# Altium integrated library TI Data Converters Analog to Digital Converter.IntLib: 2198 symbols (part 80 of 164)
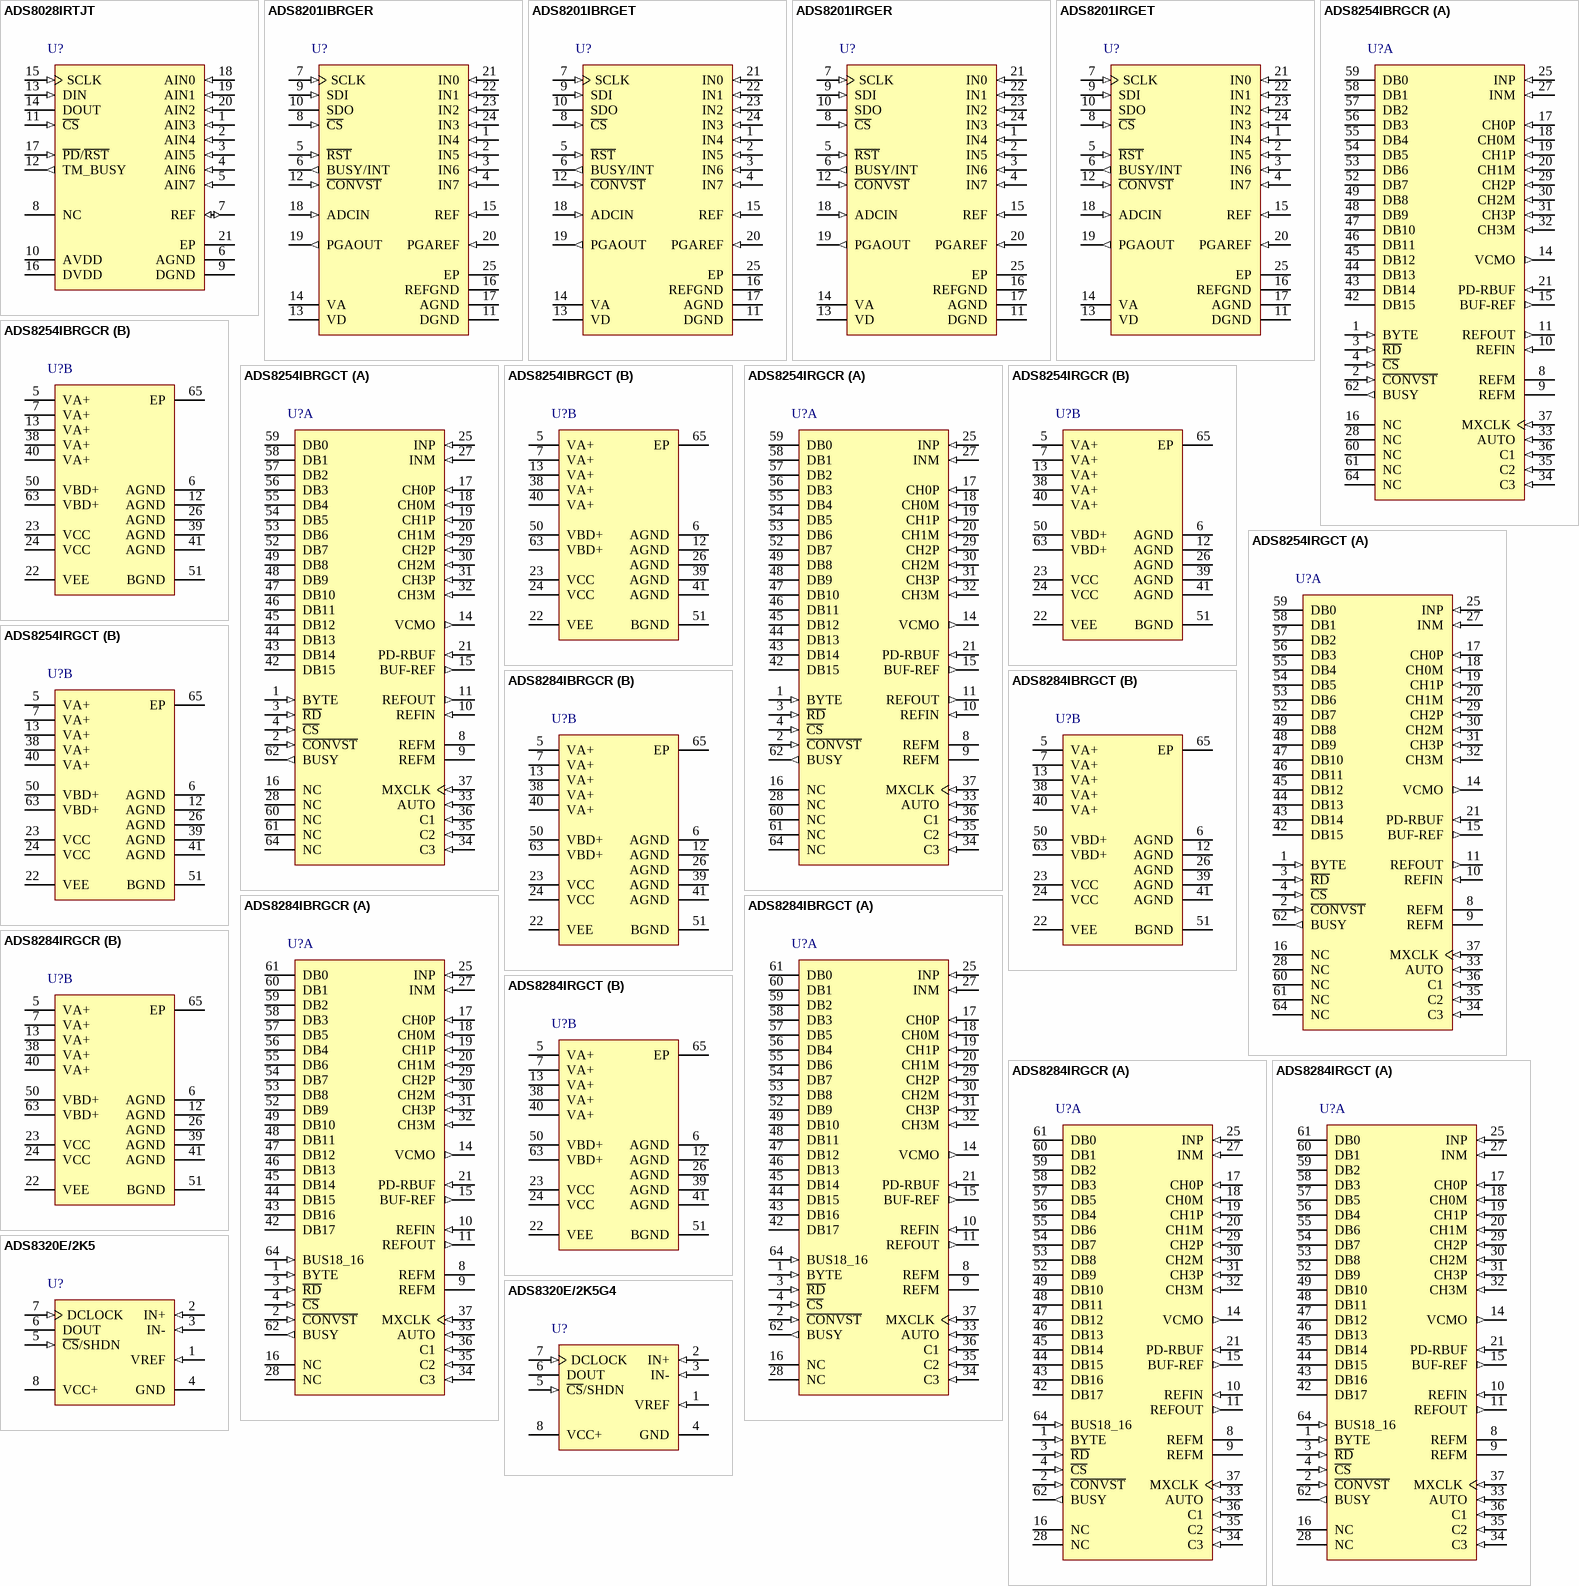
[diagram p205: symbols ADS8028IRTJT to ADS8320E/2K5G4]

## ADS8201IRGER
designator U?
2.2 to 5.5 V, Low-Power, 12-Bit, 100 kSPS, 8-Channel DAS with PGA and SPI(TM), -40 to 85 degC, 24-pin QFN (RGE24), Green (RoHS & no Sb/Br); Manufacturer: Texas Instruments; PartNumber: ADS8201IRGER; # Input Channels: 8; Analog Voltage AV/DD(Max)(V): 5.5; Analog Voltage AV/DD(Min)(V): 2.2; Architecture: SAR; INL(Max)(+/-LSB): 1.5; Interface: Serial SPI; Resolution(Bits): 12; Sample Rate (max)(SPS): 100k; SubFamily: Precision ADC (<=10MSPS); DatasheetVersion: SLAS534B; PackageVersion: 4204104/G, 07/2011; PackageReference: RGE24-2450X2450TP; PackageDescription: 24-Pin Plastic Flat Pack, Body 4 x 4 mm, Pitch 0.5 mm; Supplier 1: Digi-Key; Supplier Part Number 1: ADS830EG4-ND; Digital Supply(Max)(V): 5.5; Digital Supply(Min)(V): 2.2; Eco-Plan: Green (RoHS & no Sb/Br); Mounting Technology: Surface Mount; Code_JEDEC: MO-220; ComponentLink1Description: Manufacturer URL; ComponentLink1URL: http://www.ti.com/; ComponentLink2Description: Datasheet; ComponentLink2URL: http://www.ti.com/general/docs/lit/getliterature.tsp?genericPartNumber=ADS8201&fileType=pdf; ComponentLink3Description: Package Specification; ComponentLink3URL: http://www.ti.com/litv/pdf/mpqf124f
footprint TI-RGE24-2450X2450TP_V (QFN, 24-Leads, Body 4x4mm, Pitch 0.5mm, Thermal Pad 2.45x2.45mm)
pins: 1 IN4 (in) "Input channel single-ended 4 or differential pair 3", 2 IN5 (in) "Input channel single-ended 5 or differential pair 3", 3 IN6 (in) "Input channel single-ended 6 or differential pair 4", 4 IN7 (in) "Input channel single-ended 7 or differential pair 4", 5 ~{RST} (in) "External hardware reset", 6 BUSY/INT (out) "Status output. If programmed as the BUSY pin, this pin is low (default) when a conversion is in progress. If programmed as an interrupt (INT), this pin is low for a preprogrammed duration after the end of a conversion and (See Datasheet)", 7 SCLK (in) "Serial interface clock", 8 ~{CS} (in) "Chip select input for SPI interface slave select (S\S\)", 9 SDI (in) "Serial data in", 10 SDO (hiz) "Serial data out", 11 DGND (power) "Interface ground", 12 ~{CONVST} (in) "Starts conversion", 13 VD (power) "Interface supply", 14 VA (power) "Analog supply (+2.2VDC to +5.5VDC)", 15 REF (in) "External reference input", 16 REFGND (power) "Reference ground", 17 AGND (power) "Analog ground", 18 ADCIN (in) "ADC input", 19 PGAOUT (out) "Mux output. Output can be further filtered before sending to ADCIN.", 20 PGAREF (in) "PGA Reference", 21 IN0 (in) "Analog channel single-ended 0 or differential pair 0", 22 IN1 (in) "Analog channel single-ended 1 or differential pair 0", 23 IN2 (in) "Analog channel single-ended 2 or differential pair 1", 24 IN3 (in) "Analog channel single-ended 3 or differential pair 1", 25 EP (power) "Thermal pad should be tied to AGND."

## ADS8201IRGET
designator U?
2.2 to 5.5 V, Low-Power, 12-Bit, 100 kSPS, 8-Channel DAS with PGA and SPI(TM), -40 to 85 degC, 24-pin QFN (RGE24), Green (RoHS & no Sb/Br); Manufacturer: Texas Instruments; PartNumber: ADS8201IRGET; # Input Channels: 8; Analog Voltage AV/DD(Max)(V): 5.5; Analog Voltage AV/DD(Min)(V): 2.2; Architecture: SAR; INL(Max)(+/-LSB): 1.5; Interface: Serial SPI; Resolution(Bits): 12; Sample Rate (max)(SPS): 100k; SubFamily: Precision ADC (<=10MSPS); DatasheetVersion: SLAS534B; PackageVersion: 4204104/G, 07/2011; PackageReference: RGE24-2450X2450TP; PackageDescription: 24-Pin Plastic Flat Pack, Body 4 x 4 mm, Pitch 0.5 mm; Supplier 1: Digi-Key; Supplier Part Number 1: ADS807E-ND; Digital Supply(Max)(V): 5.5; Digital Supply(Min)(V): 2.2; Eco-Plan: Green (RoHS & no Sb/Br); Mounting Technology: Surface Mount; Code_JEDEC: MO-220; ComponentLink1Description: Manufacturer URL; ComponentLink1URL: http://www.ti.com/; ComponentLink2Description: Datasheet; ComponentLink2URL: http://www.ti.com/general/docs/lit/getliterature.tsp?genericPartNumber=ADS8201&fileType=pdf; ComponentLink3Description: Package Specification; ComponentLink3URL: http://www.ti.com/litv/pdf/mpqf124f
footprint TI-RGE24-2450X2450TP_V (QFN, 24-Leads, Body 4x4mm, Pitch 0.5mm, Thermal Pad 2.45x2.45mm)
pins: 1 IN4 (in) "Input channel single-ended 4 or differential pair 3", 2 IN5 (in) "Input channel single-ended 5 or differential pair 3", 3 IN6 (in) "Input channel single-ended 6 or differential pair 4", 4 IN7 (in) "Input channel single-ended 7 or differential pair 4", 5 ~{RST} (in) "External hardware reset", 6 BUSY/INT (out) "Status output. If programmed as the BUSY pin, this pin is low (default) when a conversion is in progress. If programmed as an interrupt (INT), this pin is low for a preprogrammed duration after the end of a conversion and (See Datasheet)", 7 SCLK (in) "Serial interface clock", 8 ~{CS} (in) "Chip select input for SPI interface slave select (S\S\)", 9 SDI (in) "Serial data in", 10 SDO (hiz) "Serial data out", 11 DGND (power) "Interface ground", 12 ~{CONVST} (in) "Starts conversion", 13 VD (power) "Interface supply", 14 VA (power) "Analog supply (+2.2VDC to +5.5VDC)", 15 REF (in) "External reference input", 16 REFGND (power) "Reference ground", 17 AGND (power) "Analog ground", 18 ADCIN (in) "ADC input", 19 PGAOUT (out) "Mux output. Output can be further filtered before sending to ADCIN.", 20 PGAREF (in) "PGA Reference", 21 IN0 (in) "Analog channel single-ended 0 or differential pair 0", 22 IN1 (in) "Analog channel single-ended 1 or differential pair 0", 23 IN2 (in) "Analog channel single-ended 2 or differential pair 1", 24 IN3 (in) "Analog channel single-ended 3 or differential pair 1", 25 EP (power) "Thermal pad should be tied to AGND."

## ADS8254IBRGCR
designator U?
16-Bit, 4 Channel Differential Complete Acquisition Solution (ADC, REF, and Input Buffer), -40 to 85 degC, 64-pin QFN (RGC64), Green (RoHS & no Sb/Br); Manufacturer: Texas Instruments; PartNumber: ADS8254IBRGCR; # Input Channels: 4; Analog Voltage AV/DD(Max)(V): 5.25; Analog Voltage AV/DD(Min)(V): 4.75; Architecture: SAR; Digital Supply(Min)(V): 2.7; INL(Max)(+/-LSB): 0.75; Interface: Parallel CMOS; Resolution(Bits): 16; Sample Rate (max)(SPS): 1M; SFDR(dB): 120; SINAD(dB): 95.2; SNR(dB): 95.4; SubFamily: Precision ADC (<=10MSPS); DatasheetVersion: SLAS643; PackageVersion: 4204106/F, 11/2011; PackageReference: RGC64-7250X7250TP; PackageDescription: 64-Pin Plastic Quad Flatpack No-Lead, Body 9 x 9 mm, Pitch 0.5 mm; Supplier 1: Digi-Key; Supplier Part Number 1: ADS807E/1K-ND; Digital Supply(Max)(V): 5.25; Eco-Plan: Green (RoHS & no Sb/Br); Mounting Technology: Surface Mount; ComponentLink1Description: Manufacturer URL; ComponentLink1URL: http://www.ti.com/; ComponentLink2Description: Datasheet; ComponentLink2URL: http://www.ti.com/general/docs/lit/getliterature.tsp?genericPartNumber=ADS8254&fileType=pdf; ComponentLink3Description: Package Specification; ComponentLink3URL: http://www.ti.com/litv/pdf/mpqf125e
footprint TI-RGC64-7250X7250TP_V (QFN, 64-Leads, Body 9x9mm, Pitch 0.5mm, Thermal Pad 7.25x7.25mm, TI Recommended)
part A pins: 1 BYTE (in) "Byte Select Input. Used for 8-bit bus reading. Refer to ADC DATA BUS description above.", 2 ~{CONVST} (in) "Convert start. This input is active low and can act independent of the C\S\ input.", 3 ~{RD} (in) "Synchronization pulse for the parallel output.", 4 ~{CS} (in) "Chip select.", 8 REFM (power) "Reference ground.", 9 REFM (power) "Reference ground.", 10 REFIN (in) "Reference Input. Add 0.1-uF decoupling capacitor between REFIN and REFM.", 11 REFOUT (out) "Reference Output. Add 1-uF capacitor between the REFOUT pin and REFM pin when internal reference is used.", 14 VCMO (out) "This pin outputs REFIN/2 and can be used to set common-mode voltage of differential analog inputs.", 15 BUF-REF (out) "Buffered reference output. Useful to level shift bipolar signals using external resistors.", 16 NC "No connection.", 17 CH0P (in) "Non-inverting analog input for differential multiplexer channel number 0. Device performance is optimized for 50-ohm source impedance at this input.", 18 CH0M (in) "Inverting analog input for differential multiplexer channel number 0. Device performance is optimized for 50-ohm source impedance at this input.", 19 CH1P (in) "Non-inverting analog input for differential multiplexer channel number 1. Device performance is optimized for 50-ohm source impedance at this input.", 20 CH1M (in) "Inverting analog input for differential multiplexer channel number 1. Device performance is optimized for 50-ohm source impedance at this input.", 21 PD-RBUF (in) "High on this pin powers down the reference buffer (BUF-REF).", 25 INP (in) "ADC Non inverting input., connect 1-nF capacitor across INP and INM", 27 INM (in) "ADC Inverting input, connect 1-nF capacitor across INP and INM", 28 NC "No connection.", 29 CH2P (in) "Non-inverting analog input for differential multiplexer channel number 2. Device performance is optimized for 50-ohm source impedance at this input.", 30 CH2M (in) "Inverting analog input for differential multiplexer channel number 2. Device performance is optimized for 50-ohm source impedance at this input.", 31 CH3P (in) "Non-inverting analog input for differential multiplexer channel number 3. Device performance is optimized for 50 ohm source impedance at this input.", 32 CH3M (in) "Inverting analog input for differential multiplexer channel number 3. Device performance is optimized for 50-ohm source impedance at this input.", 33 AUTO (in) "High level on this pin selects auto mode for multiplexer scanning. Low level selects manual mode of multiplexer scanning", 34 C3 (in) "In auto mode (AUTO = 1) multiplexer channel selection is reset to CH0 on rising edge of MXCLK while C3 = 1. The pin is do not care in manual mode.", 35 C2 (in) "Acts as multiplexer address bit when AUTO = 0 (manual mode). In auto mode (AUTO = 1) C2 and C1 select the last multiplexer channel (channel count) in the auto scan sequence.", 36 C1 (in) "Acts as multiplexer address LSB when AUTO = 0 (manual mode). In auto mode (AUTO = 1) C2 and C1 select the last multiplexer channel (channel count) in the auto scan sequence.", 37 MXCLK (in) "Multiplexer channel is selected on rising edge of MXCLK irrespective of whether it is auto or manual mode. Device BUSY output can be connected to MXCLK so that device selects next channel at the end of every sample.", 42 DB15 (hiz), 43 DB14 (hiz), 44 DB13 (hiz), 45 DB12 (hiz), 46 DB11 (hiz), 47 DB10 (hiz), 48 DB9 (hiz), 49 DB8 (hiz), 52 DB7 (hiz), 53 DB6 (hiz), 54 DB5 (hiz), 55 DB4 (hiz), 56 DB3 (hiz), 57 DB2 (hiz), 58 DB1 (hiz), 59 DB0 (hiz), 60 NC "No connection.", 61 NC "No connection.", 62 BUSY (out) "Status output. This pin is held high when device is converting.", 64 NC "No connection."
part B pins: 5 VA+ (power) "Analog power supply.", 6 AGND (power) "Analog ground.", 7 VA+ (power) "Analog power supply.", 12 AGND (power) "Analog ground.", 13 VA+ (power) "Analog power supply.", 22 VEE (power) "Negative supply for OPA (OP1, OP2)", 23 VCC (power) "Positive supply for OPA (OP1, OP2, BUF-REF)", 24 VCC (power) "Positive supply for OPA (OP1, OP2, BUF-REF)", 26 AGND (power) "Analog ground.", 38 VA+ (power) "Analog power supply.", 39 AGND (power) "Analog ground.", 40 VA+ (power) "Analog power supply.", 41 AGND (power) "Analog ground.", 50 VBD+ (power) "Digital power supply for ADC bus.", 51 BGND (power) "Digital ground for ADC bus interface digital supply.", 63 VBD+ (power) "Digital power supply for ADC bus.", 65 EP

## ADS8254IBRGCT
designator U?
16-Bit, 4 Channel Differential Complete Acquisition Solution (ADC, REF, and Input Buffer), -40 to 85 degC, 64-pin QFN (RGC64), Green (RoHS & no Sb/Br); Manufacturer: Texas Instruments; PartNumber: ADS8254IBRGCT; # Input Channels: 4; Analog Voltage AV/DD(Max)(V): 5.25; Analog Voltage AV/DD(Min)(V): 4.75; Architecture: SAR; Digital Supply(Min)(V): 2.7; INL(Max)(+/-LSB): 0.75; Interface: Parallel CMOS; Resolution(Bits): 16; Sample Rate (max)(SPS): 1M; SFDR(dB): 120; SINAD(dB): 95.2; SNR(dB): 95.4; SubFamily: Precision ADC (<=10MSPS); DatasheetVersion: SLAS643; PackageVersion: 4204106/F, 11/2011; PackageReference: RGC64-7250X7250TP; PackageDescription: 64-Pin Plastic Quad Flatpack No-Lead, Body 9 x 9 mm, Pitch 0.5 mm; Supplier 1: Digi-Key; Supplier Part Number 1: ADS807E/1KG4-ND; Digital Supply(Max)(V): 5.25; Eco-Plan: Green (RoHS & no Sb/Br); Mounting Technology: Surface Mount; ComponentLink1Description: Manufacturer URL; ComponentLink1URL: http://www.ti.com/; ComponentLink2Description: Datasheet; ComponentLink2URL: http://www.ti.com/general/docs/lit/getliterature.tsp?genericPartNumber=ADS8254&fileType=pdf; ComponentLink3Description: Package Specification; ComponentLink3URL: http://www.ti.com/litv/pdf/mpqf125e
footprint TI-RGC64-7250X7250TP_V (QFN, 64-Leads, Body 9x9mm, Pitch 0.5mm, Thermal Pad 7.25x7.25mm, TI Recommended)
part A pins: 1 BYTE (in) "Byte Select Input. Used for 8-bit bus reading. Refer to ADC DATA BUS description above.", 2 ~{CONVST} (in) "Convert start. This input is active low and can act independent of the C\S\ input.", 3 ~{RD} (in) "Synchronization pulse for the parallel output.", 4 ~{CS} (in) "Chip select.", 8 REFM (power) "Reference ground.", 9 REFM (power) "Reference ground.", 10 REFIN (in) "Reference Input. Add 0.1-uF decoupling capacitor between REFIN and REFM.", 11 REFOUT (out) "Reference Output. Add 1-uF capacitor between the REFOUT pin and REFM pin when internal reference is used.", 14 VCMO (out) "This pin outputs REFIN/2 and can be used to set common-mode voltage of differential analog inputs.", 15 BUF-REF (out) "Buffered reference output. Useful to level shift bipolar signals using external resistors.", 16 NC "No connection.", 17 CH0P (in) "Non-inverting analog input for differential multiplexer channel number 0. Device performance is optimized for 50-ohm source impedance at this input.", 18 CH0M (in) "Inverting analog input for differential multiplexer channel number 0. Device performance is optimized for 50-ohm source impedance at this input.", 19 CH1P (in) "Non-inverting analog input for differential multiplexer channel number 1. Device performance is optimized for 50-ohm source impedance at this input.", 20 CH1M (in) "Inverting analog input for differential multiplexer channel number 1. Device performance is optimized for 50-ohm source impedance at this input.", 21 PD-RBUF (in) "High on this pin powers down the reference buffer (BUF-REF).", 25 INP (in) "ADC Non inverting input., connect 1-nF capacitor across INP and INM", 27 INM (in) "ADC Inverting input, connect 1-nF capacitor across INP and INM", 28 NC "No connection.", 29 CH2P (in) "Non-inverting analog input for differential multiplexer channel number 2. Device performance is optimized for 50-ohm source impedance at this input.", 30 CH2M (in) "Inverting analog input for differential multiplexer channel number 2. Device performance is optimized for 50-ohm source impedance at this input.", 31 CH3P (in) "Non-inverting analog input for differential multiplexer channel number 3. Device performance is optimized for 50 ohm source impedance at this input.", 32 CH3M (in) "Inverting analog input for differential multiplexer channel number 3. Device performance is optimized for 50-ohm source impedance at this input.", 33 AUTO (in) "High level on this pin selects auto mode for multiplexer scanning. Low level selects manual mode of multiplexer scanning", 34 C3 (in) "In auto mode (AUTO = 1) multiplexer channel selection is reset to CH0 on rising edge of MXCLK while C3 = 1. The pin is do not care in manual mode.", 35 C2 (in) "Acts as multiplexer address bit when AUTO = 0 (manual mode). In auto mode (AUTO = 1) C2 and C1 select the last multiplexer channel (channel count) in the auto scan sequence.", 36 C1 (in) "Acts as multiplexer address LSB when AUTO = 0 (manual mode). In auto mode (AUTO = 1) C2 and C1 select the last multiplexer channel (channel count) in the auto scan sequence.", 37 MXCLK (in) "Multiplexer channel is selected on rising edge of MXCLK irrespective of whether it is auto or manual mode. Device BUSY output can be connected to MXCLK so that device selects next channel at the end of every sample.", 42 DB15 (hiz), 43 DB14 (hiz), 44 DB13 (hiz), 45 DB12 (hiz), 46 DB11 (hiz), 47 DB10 (hiz), 48 DB9 (hiz), 49 DB8 (hiz), 52 DB7 (hiz), 53 DB6 (hiz), 54 DB5 (hiz), 55 DB4 (hiz), 56 DB3 (hiz), 57 DB2 (hiz), 58 DB1 (hiz), 59 DB0 (hiz), 60 NC "No connection.", 61 NC "No connection.", 62 BUSY (out) "Status output. This pin is held high when device is converting.", 64 NC "No connection."
part B pins: 5 VA+ (power) "Analog power supply.", 6 AGND (power) "Analog ground.", 7 VA+ (power) "Analog power supply.", 12 AGND (power) "Analog ground.", 13 VA+ (power) "Analog power supply.", 22 VEE (power) "Negative supply for OPA (OP1, OP2)", 23 VCC (power) "Positive supply for OPA (OP1, OP2, BUF-REF)", 24 VCC (power) "Positive supply for OPA (OP1, OP2, BUF-REF)", 26 AGND (power) "Analog ground.", 38 VA+ (power) "Analog power supply.", 39 AGND (power) "Analog ground.", 40 VA+ (power) "Analog power supply.", 41 AGND (power) "Analog ground.", 50 VBD+ (power) "Digital power supply for ADC bus.", 51 BGND (power) "Digital ground for ADC bus interface digital supply.", 63 VBD+ (power) "Digital power supply for ADC bus.", 65 EP

## ADS8254IRGCR
designator U?
16-Bit, 4 Channel Differential Complete Acquisition Solution (ADC, REF, and Input Buffer), -40 to 85 degC, 64-pin QFN (RGC64), Green (RoHS & no Sb/Br); Manufacturer: Texas Instruments; PartNumber: ADS8254IRGCR; # Input Channels: 4; Analog Voltage AV/DD(Max)(V): 5.25; Analog Voltage AV/DD(Min)(V): 4.75; Architecture: SAR; Digital Supply(Min)(V): 2.7; INL(Max)(+/-LSB): 1.5; Interface: Parallel CMOS; Resolution(Bits): 16; Sample Rate (max)(SPS): 1M; SFDR(dB): 120; SINAD(dB): 95.2; SNR(dB): 95.4; SubFamily: Precision ADC (<=10MSPS); DatasheetVersion: SLAS643; PackageVersion: 4204106/F, 11/2011; PackageReference: RGC64-7250X7250TP; PackageDescription: 64-Pin Plastic Quad Flatpack No-Lead, Body 9 x 9 mm, Pitch 0.5 mm; Supplier 1: Digi-Key; Supplier Part Number 1: ADS807EG4-ND; Digital Supply(Max)(V): 5.25; Eco-Plan: Green (RoHS & no Sb/Br); Mounting Technology: Surface Mount; ComponentLink1Description: Manufacturer URL; ComponentLink1URL: http://www.ti.com/; ComponentLink2Description: Datasheet; ComponentLink2URL: http://www.ti.com/general/docs/lit/getliterature.tsp?genericPartNumber=ADS8254&fileType=pdf; ComponentLink3Description: Package Specification; ComponentLink3URL: http://www.ti.com/litv/pdf/mpqf125e
footprint TI-RGC64-7250X7250TP_V (QFN, 64-Leads, Body 9x9mm, Pitch 0.5mm, Thermal Pad 7.25x7.25mm, TI Recommended)
part A pins: 1 BYTE (in) "Byte Select Input. Used for 8-bit bus reading. Refer to ADC DATA BUS description above.", 2 ~{CONVST} (in) "Convert start. This input is active low and can act independent of the C\S\ input.", 3 ~{RD} (in) "Synchronization pulse for the parallel output.", 4 ~{CS} (in) "Chip select.", 8 REFM (power) "Reference ground.", 9 REFM (power) "Reference ground.", 10 REFIN (in) "Reference Input. Add 0.1-uF decoupling capacitor between REFIN and REFM.", 11 REFOUT (out) "Reference Output. Add 1-uF capacitor between the REFOUT pin and REFM pin when internal reference is used.", 14 VCMO (out) "This pin outputs REFIN/2 and can be used to set common-mode voltage of differential analog inputs.", 15 BUF-REF (out) "Buffered reference output. Useful to level shift bipolar signals using external resistors.", 16 NC "No connection.", 17 CH0P (in) "Non-inverting analog input for differential multiplexer channel number 0. Device performance is optimized for 50-ohm source impedance at this input.", 18 CH0M (in) "Inverting analog input for differential multiplexer channel number 0. Device performance is optimized for 50-ohm source impedance at this input.", 19 CH1P (in) "Non-inverting analog input for differential multiplexer channel number 1. Device performance is optimized for 50-ohm source impedance at this input.", 20 CH1M (in) "Inverting analog input for differential multiplexer channel number 1. Device performance is optimized for 50-ohm source impedance at this input.", 21 PD-RBUF (in) "High on this pin powers down the reference buffer (BUF-REF).", 25 INP (in) "ADC Non inverting input., connect 1-nF capacitor across INP and INM", 27 INM (in) "ADC Inverting input, connect 1-nF capacitor across INP and INM", 28 NC "No connection.", 29 CH2P (in) "Non-inverting analog input for differential multiplexer channel number 2. Device performance is optimized for 50-ohm source impedance at this input.", 30 CH2M (in) "Inverting analog input for differential multiplexer channel number 2. Device performance is optimized for 50-ohm source impedance at this input.", 31 CH3P (in) "Non-inverting analog input for differential multiplexer channel number 3. Device performance is optimized for 50 ohm source impedance at this input.", 32 CH3M (in) "Inverting analog input for differential multiplexer channel number 3. Device performance is optimized for 50-ohm source impedance at this input.", 33 AUTO (in) "High level on this pin selects auto mode for multiplexer scanning. Low level selects manual mode of multiplexer scanning", 34 C3 (in) "In auto mode (AUTO = 1) multiplexer channel selection is reset to CH0 on rising edge of MXCLK while C3 = 1. The pin is do not care in manual mode.", 35 C2 (in) "Acts as multiplexer address bit when AUTO = 0 (manual mode). In auto mode (AUTO = 1) C2 and C1 select the last multiplexer channel (channel count) in the auto scan sequence.", 36 C1 (in) "Acts as multiplexer address LSB when AUTO = 0 (manual mode). In auto mode (AUTO = 1) C2 and C1 select the last multiplexer channel (channel count) in the auto scan sequence.", 37 MXCLK (in) "Multiplexer channel is selected on rising edge of MXCLK irrespective of whether it is auto or manual mode. Device BUSY output can be connected to MXCLK so that device selects next channel at the end of every sample.", 42 DB15 (hiz), 43 DB14 (hiz), 44 DB13 (hiz), 45 DB12 (hiz), 46 DB11 (hiz), 47 DB10 (hiz), 48 DB9 (hiz), 49 DB8 (hiz), 52 DB7 (hiz), 53 DB6 (hiz), 54 DB5 (hiz), 55 DB4 (hiz), 56 DB3 (hiz), 57 DB2 (hiz), 58 DB1 (hiz), 59 DB0 (hiz), 60 NC "No connection.", 61 NC "No connection.", 62 BUSY (out) "Status output. This pin is held high when device is converting.", 64 NC "No connection."
part B pins: 5 VA+ (power) "Analog power supply.", 6 AGND (power) "Analog ground.", 7 VA+ (power) "Analog power supply.", 12 AGND (power) "Analog ground.", 13 VA+ (power) "Analog power supply.", 22 VEE (power) "Negative supply for OPA (OP1, OP2)", 23 VCC (power) "Positive supply for OPA (OP1, OP2, BUF-REF)", 24 VCC (power) "Positive supply for OPA (OP1, OP2, BUF-REF)", 26 AGND (power) "Analog ground.", 38 VA+ (power) "Analog power supply.", 39 AGND (power) "Analog ground.", 40 VA+ (power) "Analog power supply.", 41 AGND (power) "Analog ground.", 50 VBD+ (power) "Digital power supply for ADC bus.", 51 BGND (power) "Digital ground for ADC bus interface digital supply.", 63 VBD+ (power) "Digital power supply for ADC bus.", 65 EP

## ADS8254IRGCT
designator U?
16-Bit, 4 Channel Differential Complete Acquisition Solution (ADC, REF, and Input Buffer), -40 to 85 degC, 64-pin QFN (RGC64), Green (RoHS & no Sb/Br); Manufacturer: Texas Instruments; PartNumber: ADS8254IRGCT; # Input Channels: 4; Analog Voltage AV/DD(Max)(V): 5.25; Analog Voltage AV/DD(Min)(V): 4.75; Architecture: SAR; Digital Supply(Min)(V): 2.7; INL(Max)(+/-LSB): 1.5; Interface: Parallel CMOS; Resolution(Bits): 16; Sample Rate (max)(SPS): 1M; SFDR(dB): 120; SINAD(dB): 95.2; SNR(dB): 95.4; SubFamily: Precision ADC (<=10MSPS); DatasheetVersion: SLAS643; PackageVersion: 4204106/F, 11/2011; PackageReference: RGC64-7250X7250TP; PackageDescription: 64-Pin Plastic Quad Flatpack No-Lead, Body 9 x 9 mm, Pitch 0.5 mm; Supplier 1: Digi-Key; Supplier Part Number 1: ADS1201U-ND; Digital Supply(Max)(V): 5.25; Eco-Plan: Green (RoHS & no Sb/Br); Mounting Technology: Surface Mount; ComponentLink1Description: Manufacturer URL; ComponentLink1URL: http://www.ti.com/; ComponentLink2Description: Datasheet; ComponentLink2URL: http://www.ti.com/general/docs/lit/getliterature.tsp?genericPartNumber=ADS8254&fileType=pdf; ComponentLink3Description: Package Specification; ComponentLink3URL: http://www.ti.com/litv/pdf/mpqf125e
footprint TI-RGC64-7250X7250TP_V (QFN, 64-Leads, Body 9x9mm, Pitch 0.5mm, Thermal Pad 7.25x7.25mm, TI Recommended)
part A pins: 1 BYTE (in) "Byte Select Input. Used for 8-bit bus reading. Refer to ADC DATA BUS description above.", 2 ~{CONVST} (in) "Convert start. This input is active low and can act independent of the C\S\ input.", 3 ~{RD} (in) "Synchronization pulse for the parallel output.", 4 ~{CS} (in) "Chip select.", 8 REFM (power) "Reference ground.", 9 REFM (power) "Reference ground.", 10 REFIN (in) "Reference Input. Add 0.1-uF decoupling capacitor between REFIN and REFM.", 11 REFOUT (out) "Reference Output. Add 1-uF capacitor between the REFOUT pin and REFM pin when internal reference is used.", 14 VCMO (out) "This pin outputs REFIN/2 and can be used to set common-mode voltage of differential analog inputs.", 15 BUF-REF (out) "Buffered reference output. Useful to level shift bipolar signals using external resistors.", 16 NC "No connection.", 17 CH0P (in) "Non-inverting analog input for differential multiplexer channel number 0. Device performance is optimized for 50-ohm source impedance at this input.", 18 CH0M (in) "Inverting analog input for differential multiplexer channel number 0. Device performance is optimized for 50-ohm source impedance at this input.", 19 CH1P (in) "Non-inverting analog input for differential multiplexer channel number 1. Device performance is optimized for 50-ohm source impedance at this input.", 20 CH1M (in) "Inverting analog input for differential multiplexer channel number 1. Device performance is optimized for 50-ohm source impedance at this input.", 21 PD-RBUF (in) "High on this pin powers down the reference buffer (BUF-REF).", 25 INP (in) "ADC Non inverting input., connect 1-nF capacitor across INP and INM", 27 INM (in) "ADC Inverting input, connect 1-nF capacitor across INP and INM", 28 NC "No connection.", 29 CH2P (in) "Non-inverting analog input for differential multiplexer channel number 2. Device performance is optimized for 50-ohm source impedance at this input.", 30 CH2M (in) "Inverting analog input for differential multiplexer channel number 2. Device performance is optimized for 50-ohm source impedance at this input.", 31 CH3P (in) "Non-inverting analog input for differential multiplexer channel number 3. Device performance is optimized for 50 ohm source impedance at this input.", 32 CH3M (in) "Inverting analog input for differential multiplexer channel number 3. Device performance is optimized for 50-ohm source impedance at this input.", 33 AUTO (in) "High level on this pin selects auto mode for multiplexer scanning. Low level selects manual mode of multiplexer scanning", 34 C3 (in) "In auto mode (AUTO = 1) multiplexer channel selection is reset to CH0 on rising edge of MXCLK while C3 = 1. The pin is do not care in manual mode.", 35 C2 (in) "Acts as multiplexer address bit when AUTO = 0 (manual mode). In auto mode (AUTO = 1) C2 and C1 select the last multiplexer channel (channel count) in the auto scan sequence.", 36 C1 (in) "Acts as multiplexer address LSB when AUTO = 0 (manual mode). In auto mode (AUTO = 1) C2 and C1 select the last multiplexer channel (channel count) in the auto scan sequence.", 37 MXCLK (in) "Multiplexer channel is selected on rising edge of MXCLK irrespective of whether it is auto or manual mode. Device BUSY output can be connected to MXCLK so that device selects next channel at the end of every sample.", 42 DB15 (hiz), 43 DB14 (hiz), 44 DB13 (hiz), 45 DB12 (hiz), 46 DB11 (hiz), 47 DB10 (hiz), 48 DB9 (hiz), 49 DB8 (hiz), 52 DB7 (hiz), 53 DB6 (hiz), 54 DB5 (hiz), 55 DB4 (hiz), 56 DB3 (hiz), 57 DB2 (hiz), 58 DB1 (hiz), 59 DB0 (hiz), 60 NC "No connection.", 61 NC "No connection.", 62 BUSY (out) "Status output. This pin is held high when device is converting.", 64 NC "No connection."
part B pins: 5 VA+ (power) "Analog power supply.", 6 AGND (power) "Analog ground.", 7 VA+ (power) "Analog power supply.", 12 AGND (power) "Analog ground.", 13 VA+ (power) "Analog power supply.", 22 VEE (power) "Negative supply for OPA (OP1, OP2)", 23 VCC (power) "Positive supply for OPA (OP1, OP2, BUF-REF)", 24 VCC (power) "Positive supply for OPA (OP1, OP2, BUF-REF)", 26 AGND (power) "Analog ground.", 38 VA+ (power) "Analog power supply.", 39 AGND (power) "Analog ground.", 40 VA+ (power) "Analog power supply.", 41 AGND (power) "Analog ground.", 50 VBD+ (power) "Digital power supply for ADC bus.", 51 BGND (power) "Digital ground for ADC bus interface digital supply.", 63 VBD+ (power) "Digital power supply for ADC bus.", 65 EP

## ADS8284IBRGCR
designator U?
18-Bit, 1 MSPS, 4 Channel, Pseudo Bipolar, Differential ADC with Onboard ADC Driver OPA, -40 to 85 degC, 64-pin QFN (RGC64), Green (RoHS & no Sb/Br); Manufacturer: Texas Instruments; PartNumber: ADS8284IBRGCR; # Input Channels: 4; Analog Voltage AV/DD(Max)(V): 5.25; Analog Voltage AV/DD(Min)(V): 4.75; Architecture: SAR; Digital Supply(Min)(V): 2.7; INL(Max)(+/-LSB): 2.5; Interface: Parallel CMOS; Resolution(Bits): 18; Sample Rate (max)(SPS): 1M; SFDR(dB): 121; SINAD(dB): 98.3; SNR(dB): 98.4; SubFamily: Precision ADC (<=10MSPS); DatasheetVersion: SLAS628; PackageVersion: 4204106/F, 11/2011; PackageReference: RGC64-7250X7250TP; PackageDescription: 64-Pin Plastic Quad Flatpack No-Lead, Body 9 x 9 mm, Pitch 0.5 mm; Supplier 1: Digi-Key; Supplier Part Number 1: ADS1201U/1K-ND; Digital Supply(Max)(V): 5.25; Eco-Plan: Green (RoHS & no Sb/Br); Mounting Technology: Surface Mount; ComponentLink1Description: Manufacturer URL; ComponentLink1URL: http://www.ti.com/; ComponentLink2Description: Datasheet; ComponentLink2URL: http://www.ti.com/general/docs/lit/getliterature.tsp?genericPartNumber=ADS8284&fileType=pdf; ComponentLink3Description: Package Specification; ComponentLink3URL: http://www.ti.com/litv/pdf/mpqf125e
footprint TI-RGC64-7250X7250TP_V (QFN, 64-Leads, Body 9x9mm, Pitch 0.5mm, Thermal Pad 7.25x7.25mm, TI Recommended)
part A pins: 1 BYTE (in) "Byte Select Input. Used for 8-bit bus reading. Refer to ADC DATA BUS description above.", 2 ~{CONVST} (in) "Convert start. This input is active low and can act independent of the C\S\ input.", 3 ~{RD} (in) "Synchronization pulse for the parallel output.", 4 ~{CS} (in) "Chip select.", 8 REFM (power) "Reference ground.", 9 REFM (power) "Reference ground.", 10 REFIN (in) "Reference Input. Add 0.1-uF decoupling capacitor between REFIN and REFM.", 11 REFOUT (out) "Reference Output. Add 1-uF capacitor between the REFOUT pin and REFM pin when internal reference is used.", 14 VCMO (out) "This pin outputs REFIN/2 and can be used to set common-mode voltage of differential analog inputs.", 15 BUF-REF (out) "Buffered reference output. Useful to level shift bipolar signals using external resistors.", 16 NC "No connection.", 17 CH0P (in) "Non-inverting analog input for differential multiplexer channel number 0. Device performance is optimized for 50-ohm source impedance at this input.", 18 CH0M (in) "Inverting analog input for differential multiplexer channel number 0. Device performance is optimized for 50-ohm source impedance at this input.", 19 CH1P (in) "Non-inverting analog input for differential multiplexer channel number 1. Device performance is optimized for 50-ohm source impedance at this input.", 20 CH1M (in) "Inverting analog input for differential multiplexer channel number 1. Device performance is optimized for 50-ohm source impedance at this input.", 21 PD-RBUF (in) "High on this pin powers down the reference buffer (BUF-REF).", 25 INP (in) "ADC Non inverting input., connect 1-nF capacitor across INP and INM", 27 INM (in) "ADC Inverting input, connect 1-nF capacitor across INP and INM", 28 NC "No connection.", 29 CH2P (in) "Non-inverting analog input for differential multiplexer channel number 2. Device performance is optimized for 50-ohm source impedance at this input.", 30 CH2M (in) "Inverting analog input for differential multiplexer channel number 2. Device performance is optimized for 50-ohm source impedance at this input.", 31 CH3P (in) "Non-inverting analog input for differential multiplexer channel number 3. Device performance is optimized for 50 ohm source impedance at this input.", 32 CH3M (in) "Inverting analog input for differential multiplexer channel number 3. Device performance is optimized for 50-ohm source impedance at this input.", 33 AUTO (in) "High level on this pin selects auto mode for multiplexer scanning. Low level selects manual mode of multiplexer scanning", 34 C3 (in) "In auto mode (AUTO = 1) multiplexer channel selection is reset to CH0 on rising edge of MXCLK while C3 = 1. The pin is do not care in manual mode.", 35 C2 (in) "Acts as multiplexer address bit when AUTO = 0 (manual mode). In auto mode (AUTO = 1) C2 and C1 select the last multiplexer channel (channel count) in the auto scan sequence.", 36 C1 (in) "Acts as multiplexer address LSB when AUTO = 0 (manual mode). In auto mode (AUTO = 1) C2 and C1 select the last multiplexer channel (channel count) in the auto scan sequence.", 37 MXCLK (in) "Multiplexer channel is selected on rising edge of MXCLK irrespective of whether it is auto or manual mode. Device BUSY output can be connected to MXCLK so that device selects next channel at the end of every sample.", 42 DB17 (hiz), 43 DB16 (hiz), 44 DB15 (hiz), 45 DB14 (hiz), 46 DB13 (hiz), 47 DB12 (hiz), 48 DB11 (hiz), 49 DB10 (hiz), 52 DB9 (hiz), 53 DB8 (hiz), 54 DB7 (hiz), 55 DB6 (hiz), 56 DB4 (hiz), 57 DB5 (hiz), 58 DB3 (hiz), 59 DB2 (hiz), 60 DB1 (hiz), 61 DB0 (hiz), 62 BUSY (out) "Status output. This pin is held high when device is converting.", 64 BUS18_16 (in) "Bus size select input. Used for selecting 18-bit or 16-bit wide bus transfer. Refer to ADC DATA BUS description above."
part B pins: 5 VA+ (power) "Analog power supply.", 6 AGND (power) "Analog ground.", 7 VA+ (power) "Analog power supply.", 12 AGND (power) "Analog ground.", 13 VA+ (power) "Analog power supply.", 22 VEE (power) "Negative supply for OPA (OP1, OP2)", 23 VCC (power) "Positive supply for OPA (OP1, OP2, BUF-REF)", 24 VCC (power) "Positive supply for OPA (OP1, OP2, BUF-REF)", 26 AGND (power) "Analog ground.", 38 VA+ (power) "Analog power supply.", 39 AGND (power) "Analog ground.", 40 VA+ (power) "Analog power supply.", 41 AGND (power) "Analog ground.", 50 VBD+ (power) "Digital power supply for ADC bus.", 51 BGND (power) "Digital ground for ADC bus interface digital supply.", 63 VBD+ (power) "Digital power supply for ADC bus.", 65 EP

## ADS8284IBRGCT
designator U?
18-Bit, 1 MSPS, 4 Channel, Pseudo Bipolar, Differential ADC with Onboard ADC Driver OPA, -40 to 85 degC, 64-pin QFN (RGC64), Green (RoHS & no Sb/Br); Manufacturer: Texas Instruments; PartNumber: ADS8284IBRGCT; # Input Channels: 4; Analog Voltage AV/DD(Max)(V): 5.25; Analog Voltage AV/DD(Min)(V): 4.75; Architecture: SAR; Digital Supply(Min)(V): 2.7; INL(Max)(+/-LSB): 2.5; Interface: Parallel CMOS; Resolution(Bits): 18; Sample Rate (max)(SPS): 1M; SFDR(dB): 121; SINAD(dB): 98.3; SNR(dB): 98.4; SubFamily: Precision ADC (<=10MSPS); DatasheetVersion: SLAS628; PackageVersion: 4204106/F, 11/2011; PackageReference: RGC64-7250X7250TP; PackageDescription: 64-Pin Plastic Quad Flatpack No-Lead, Body 9 x 9 mm, Pitch 0.5 mm; Supplier 1: Digi-Key; Supplier Part Number 1: ADS1201U/1KG4-ND; Digital Supply(Max)(V): 5.25; Eco-Plan: Green (RoHS & no Sb/Br); Mounting Technology: Surface Mount; ComponentLink1Description: Manufacturer URL; ComponentLink1URL: http://www.ti.com/; ComponentLink2Description: Datasheet; ComponentLink2URL: http://www.ti.com/general/docs/lit/getliterature.tsp?genericPartNumber=ADS8284&fileType=pdf; ComponentLink3Description: Package Specification; ComponentLink3URL: http://www.ti.com/litv/pdf/mpqf125e
footprint TI-RGC64-7250X7250TP_V (QFN, 64-Leads, Body 9x9mm, Pitch 0.5mm, Thermal Pad 7.25x7.25mm, TI Recommended)
part A pins: 1 BYTE (in) "Byte Select Input. Used for 8-bit bus reading. Refer to ADC DATA BUS description above.", 2 ~{CONVST} (in) "Convert start. This input is active low and can act independent of the C\S\ input.", 3 ~{RD} (in) "Synchronization pulse for the parallel output.", 4 ~{CS} (in) "Chip select.", 8 REFM (power) "Reference ground.", 9 REFM (power) "Reference ground.", 10 REFIN (in) "Reference Input. Add 0.1-uF decoupling capacitor between REFIN and REFM.", 11 REFOUT (out) "Reference Output. Add 1-uF capacitor between the REFOUT pin and REFM pin when internal reference is used.", 14 VCMO (out) "This pin outputs REFIN/2 and can be used to set common-mode voltage of differential analog inputs.", 15 BUF-REF (out) "Buffered reference output. Useful to level shift bipolar signals using external resistors.", 16 NC "No connection.", 17 CH0P (in) "Non-inverting analog input for differential multiplexer channel number 0. Device performance is optimized for 50-ohm source impedance at this input.", 18 CH0M (in) "Inverting analog input for differential multiplexer channel number 0. Device performance is optimized for 50-ohm source impedance at this input.", 19 CH1P (in) "Non-inverting analog input for differential multiplexer channel number 1. Device performance is optimized for 50-ohm source impedance at this input.", 20 CH1M (in) "Inverting analog input for differential multiplexer channel number 1. Device performance is optimized for 50-ohm source impedance at this input.", 21 PD-RBUF (in) "High on this pin powers down the reference buffer (BUF-REF).", 25 INP (in) "ADC Non inverting input., connect 1-nF capacitor across INP and INM", 27 INM (in) "ADC Inverting input, connect 1-nF capacitor across INP and INM", 28 NC "No connection.", 29 CH2P (in) "Non-inverting analog input for differential multiplexer channel number 2. Device performance is optimized for 50-ohm source impedance at this input.", 30 CH2M (in) "Inverting analog input for differential multiplexer channel number 2. Device performance is optimized for 50-ohm source impedance at this input.", 31 CH3P (in) "Non-inverting analog input for differential multiplexer channel number 3. Device performance is optimized for 50 ohm source impedance at this input.", 32 CH3M (in) "Inverting analog input for differential multiplexer channel number 3. Device performance is optimized for 50-ohm source impedance at this input.", 33 AUTO (in) "High level on this pin selects auto mode for multiplexer scanning. Low level selects manual mode of multiplexer scanning", 34 C3 (in) "In auto mode (AUTO = 1) multiplexer channel selection is reset to CH0 on rising edge of MXCLK while C3 = 1. The pin is do not care in manual mode.", 35 C2 (in) "Acts as multiplexer address bit when AUTO = 0 (manual mode). In auto mode (AUTO = 1) C2 and C1 select the last multiplexer channel (channel count) in the auto scan sequence.", 36 C1 (in) "Acts as multiplexer address LSB when AUTO = 0 (manual mode). In auto mode (AUTO = 1) C2 and C1 select the last multiplexer channel (channel count) in the auto scan sequence.", 37 MXCLK (in) "Multiplexer channel is selected on rising edge of MXCLK irrespective of whether it is auto or manual mode. Device BUSY output can be connected to MXCLK so that device selects next channel at the end of every sample.", 42 DB17 (hiz), 43 DB16 (hiz), 44 DB15 (hiz), 45 DB14 (hiz), 46 DB13 (hiz), 47 DB12 (hiz), 48 DB11 (hiz), 49 DB10 (hiz), 52 DB9 (hiz), 53 DB8 (hiz), 54 DB7 (hiz), 55 DB6 (hiz), 56 DB4 (hiz), 57 DB5 (hiz), 58 DB3 (hiz), 59 DB2 (hiz), 60 DB1 (hiz), 61 DB0 (hiz), 62 BUSY (out) "Status output. This pin is held high when device is converting.", 64 BUS18_16 (in) "Bus size select input. Used for selecting 18-bit or 16-bit wide bus transfer. Refer to ADC DATA BUS description above."
part B pins: 5 VA+ (power) "Analog power supply.", 6 AGND (power) "Analog ground.", 7 VA+ (power) "Analog power supply.", 12 AGND (power) "Analog ground.", 13 VA+ (power) "Analog power supply.", 22 VEE (power) "Negative supply for OPA (OP1, OP2)", 23 VCC (power) "Positive supply for OPA (OP1, OP2, BUF-REF)", 24 VCC (power) "Positive supply for OPA (OP1, OP2, BUF-REF)", 26 AGND (power) "Analog ground.", 38 VA+ (power) "Analog power supply.", 39 AGND (power) "Analog ground.", 40 VA+ (power) "Analog power supply.", 41 AGND (power) "Analog ground.", 50 VBD+ (power) "Digital power supply for ADC bus.", 51 BGND (power) "Digital ground for ADC bus interface digital supply.", 63 VBD+ (power) "Digital power supply for ADC bus.", 65 EP

## ADS8284IRGCR
designator U?
18-Bit, 1 MSPS, 4 Channel, Pseudo Bipolar, Differential ADC with Onboard ADC Driver OPA, -40 to 85 degC, 64-pin QFN (RGC64), Green (RoHS & no Sb/Br); Manufacturer: Texas Instruments; PartNumber: ADS8284IRGCR; # Input Channels: 4; Analog Voltage AV/DD(Max)(V): 5.25; Analog Voltage AV/DD(Min)(V): 4.75; Architecture: SAR; Digital Supply(Min)(V): 2.7; INL(Max)(+/-LSB): 4.5; Interface: Parallel CMOS; Resolution(Bits): 18; Sample Rate (max)(SPS): 1M; SFDR(dB): 121; SINAD(dB): 98.3; SNR(dB): 98.4; SubFamily: Precision ADC (<=10MSPS); DatasheetVersion: SLAS628; PackageVersion: 4204106/F, 11/2011; PackageReference: RGC64-7250X7250TP; PackageDescription: 64-Pin Plastic Quad Flatpack No-Lead, Body 9 x 9 mm, Pitch 0.5 mm; Supplier 1: Digi-Key; Supplier Part Number 1: ADS1201UG4-ND; Digital Supply(Max)(V): 5.25; Eco-Plan: Green (RoHS & no Sb/Br); Mounting Technology: Surface Mount; ComponentLink1Description: Manufacturer URL; ComponentLink1URL: http://www.ti.com/; ComponentLink2Description: Datasheet; ComponentLink2URL: http://www.ti.com/general/docs/lit/getliterature.tsp?genericPartNumber=ADS8284&fileType=pdf; ComponentLink3Description: Package Specification; ComponentLink3URL: http://www.ti.com/litv/pdf/mpqf125e
footprint TI-RGC64-7250X7250TP_V (QFN, 64-Leads, Body 9x9mm, Pitch 0.5mm, Thermal Pad 7.25x7.25mm, TI Recommended)
part A pins: 1 BYTE (in) "Byte Select Input. Used for 8-bit bus reading. Refer to ADC DATA BUS description above.", 2 ~{CONVST} (in) "Convert start. This input is active low and can act independent of the C\S\ input.", 3 ~{RD} (in) "Synchronization pulse for the parallel output.", 4 ~{CS} (in) "Chip select.", 8 REFM (power) "Reference ground.", 9 REFM (power) "Reference ground.", 10 REFIN (in) "Reference Input. Add 0.1-uF decoupling capacitor between REFIN and REFM.", 11 REFOUT (out) "Reference Output. Add 1-uF capacitor between the REFOUT pin and REFM pin when internal reference is used.", 14 VCMO (out) "This pin outputs REFIN/2 and can be used to set common-mode voltage of differential analog inputs.", 15 BUF-REF (out) "Buffered reference output. Useful to level shift bipolar signals using external resistors.", 16 NC "No connection.", 17 CH0P (in) "Non-inverting analog input for differential multiplexer channel number 0. Device performance is optimized for 50-ohm source impedance at this input.", 18 CH0M (in) "Inverting analog input for differential multiplexer channel number 0. Device performance is optimized for 50-ohm source impedance at this input.", 19 CH1P (in) "Non-inverting analog input for differential multiplexer channel number 1. Device performance is optimized for 50-ohm source impedance at this input.", 20 CH1M (in) "Inverting analog input for differential multiplexer channel number 1. Device performance is optimized for 50-ohm source impedance at this input.", 21 PD-RBUF (in) "High on this pin powers down the reference buffer (BUF-REF).", 25 INP (in) "ADC Non inverting input., connect 1-nF capacitor across INP and INM", 27 INM (in) "ADC Inverting input, connect 1-nF capacitor across INP and INM", 28 NC "No connection.", 29 CH2P (in) "Non-inverting analog input for differential multiplexer channel number 2. Device performance is optimized for 50-ohm source impedance at this input.", 30 CH2M (in) "Inverting analog input for differential multiplexer channel number 2. Device performance is optimized for 50-ohm source impedance at this input.", 31 CH3P (in) "Non-inverting analog input for differential multiplexer channel number 3. Device performance is optimized for 50 ohm source impedance at this input.", 32 CH3M (in) "Inverting analog input for differential multiplexer channel number 3. Device performance is optimized for 50-ohm source impedance at this input.", 33 AUTO (in) "High level on this pin selects auto mode for multiplexer scanning. Low level selects manual mode of multiplexer scanning", 34 C3 (in) "In auto mode (AUTO = 1) multiplexer channel selection is reset to CH0 on rising edge of MXCLK while C3 = 1. The pin is do not care in manual mode.", 35 C2 (in) "Acts as multiplexer address bit when AUTO = 0 (manual mode). In auto mode (AUTO = 1) C2 and C1 select the last multiplexer channel (channel count) in the auto scan sequence.", 36 C1 (in) "Acts as multiplexer address LSB when AUTO = 0 (manual mode). In auto mode (AUTO = 1) C2 and C1 select the last multiplexer channel (channel count) in the auto scan sequence.", 37 MXCLK (in) "Multiplexer channel is selected on rising edge of MXCLK irrespective of whether it is auto or manual mode. Device BUSY output can be connected to MXCLK so that device selects next channel at the end of every sample.", 42 DB17 (hiz), 43 DB16 (hiz), 44 DB15 (hiz), 45 DB14 (hiz), 46 DB13 (hiz), 47 DB12 (hiz), 48 DB11 (hiz), 49 DB10 (hiz), 52 DB9 (hiz), 53 DB8 (hiz), 54 DB7 (hiz), 55 DB6 (hiz), 56 DB4 (hiz), 57 DB5 (hiz), 58 DB3 (hiz), 59 DB2 (hiz), 60 DB1 (hiz), 61 DB0 (hiz), 62 BUSY (out) "Status output. This pin is held high when device is converting.", 64 BUS18_16 (in) "Bus size select input. Used for selecting 18-bit or 16-bit wide bus transfer. Refer to ADC DATA BUS description above."
part B pins: 5 VA+ (power) "Analog power supply.", 6 AGND (power) "Analog ground.", 7 VA+ (power) "Analog power supply.", 12 AGND (power) "Analog ground.", 13 VA+ (power) "Analog power supply.", 22 VEE (power) "Negative supply for OPA (OP1, OP2)", 23 VCC (power) "Positive supply for OPA (OP1, OP2, BUF-REF)", 24 VCC (power) "Positive supply for OPA (OP1, OP2, BUF-REF)", 26 AGND (power) "Analog ground.", 38 VA+ (power) "Analog power supply.", 39 AGND (power) "Analog ground.", 40 VA+ (power) "Analog power supply.", 41 AGND (power) "Analog ground.", 50 VBD+ (power) "Digital power supply for ADC bus.", 51 BGND (power) "Digital ground for ADC bus interface digital supply.", 63 VBD+ (power) "Digital power supply for ADC bus.", 65 EP